# Altium schematic symbol library C_AVX.SchLib: 6 symbols
Pins are listed as number, name and electrical type; pins without a type are passive.

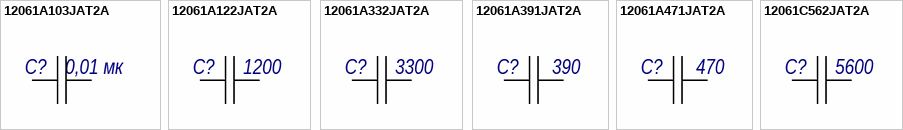
[diagram p0: symbols 12061A103JAT2A to 12061C562JAT2A]

## 12061A103JAT2A
designator C?, comment value 0,01 мк  (hidden comment: Конденсатор 12061A103JAT2A фирма "AVX")
чип 1206-NP0-100 В-0,01 мк ±5%  AVX; NomU: 100В; TKE: NP0; Manufacturer: AVX; PartNumber: 12061A103JAT2A; TCh: 5%; GOST: Конденсатор 12061A103JAT2A фирма "AVX"
footprint C1206_H130M (Dim 3.2mm*1.6mm H=1.15mm)
pins: 1, 2
1 alternate drawing of the same symbol

## 12061A122JAT2A
designator C?, comment value 1200  (hidden comment: Конденсатор 12061A122JAT2A фирма "AVX")
чип 1206-NP0-100 В-1200 п ±5%  AVX; NomU: 100В; TKE: NP0; Manufacturer: AVX; PartNumber: 12061A122JAT2A; TCh: 5%; GOST: Конденсатор 12061A122JAT2A фирма "AVX"
footprint C1206_H130M (Dim 3.2mm*1.6mm H=1.15mm)
pins: 1, 2
1 alternate drawing of the same symbol

## 12061A332JAT2A
designator C?, comment value 3300  (hidden comment: Конденсатор 12061A332JAT2A фирма "AVX")
чип 1206-NP0-100 В-3300 п ±5%  AVX; NomU: 100В; TKE: NP0; Manufacturer: AVX; PartNumber: 12061A332JAT2A; TCh: 5%; GOST: Конденсатор 12061A332JAT2A фирма "AVX"
footprint C1206_H130M (Dim 3.2mm*1.6mm H=1.15mm)
pins: 1, 2
1 alternate drawing of the same symbol

## 12061A391JAT2A
designator C?, comment value 390  (hidden comment: Конденсатор 12061A391JAT2A фирма "AVX")
чип 1206-NP0-100 В-390 п ±5%  AVX; NomU: 100В; TKE: NP0; Manufacturer: AVX; PartNumber: 12061A391JAT2A; TCh: 5%; GOST: Конденсатор 12061A391JAT2A фирма "AVX"
footprint C1206_H130M (Dim 3.2mm*1.6mm H=1.15mm)
pins: 1, 2
1 alternate drawing of the same symbol

## 12061A471JAT2A
designator C?, comment value 470  (hidden comment: Конденсатор 12061A471JAT2A фирма "AVX")
чип 1206-NP0-100 В-470 п ±5%  AVX; NomU: 100В; TKE: NP0; Manufacturer: AVX; PartNumber: 12061A471JAT2A; TCh: 5%; GOST: Конденсатор 12061A471JAT2A фирма "AVX"
footprint C1206_H130M (Dim 3.2mm*1.6mm H=1.15mm)
pins: 1, 2
1 alternate drawing of the same symbol

## 12061C562JAT2A
designator C?, comment value 5600  (hidden comment: Конденсатор 12061C562JAT2A фирма "AVX")
чип 1206-X7R-100 В-5600 п ±5%  AVX; NomU: 100В; TKE: X7R; Manufacturer: AVX; PartNumber: 12061C562JAT2A; TCh: 5%; GOST: Конденсатор 12061C562JAT2A фирма "AVX"
footprint C1206_H130M (Dim 3.2mm*1.6mm H=1.15mm)
pins: 1, 2
1 alternate drawing of the same symbol